# Altium footprint library Footprints.PcbLib: 29 footprints (part 2 of 2)
Each footprint in its own frame and in the unit in brackets; x right, y up, seen from the top. Pads: shape width x height; smd on the part's side, far side on the other; paste and mask are expansions set on the pad; w line width, h text height; cw(c..) or ccw(c..) is an arc to the next point about the centre after c.
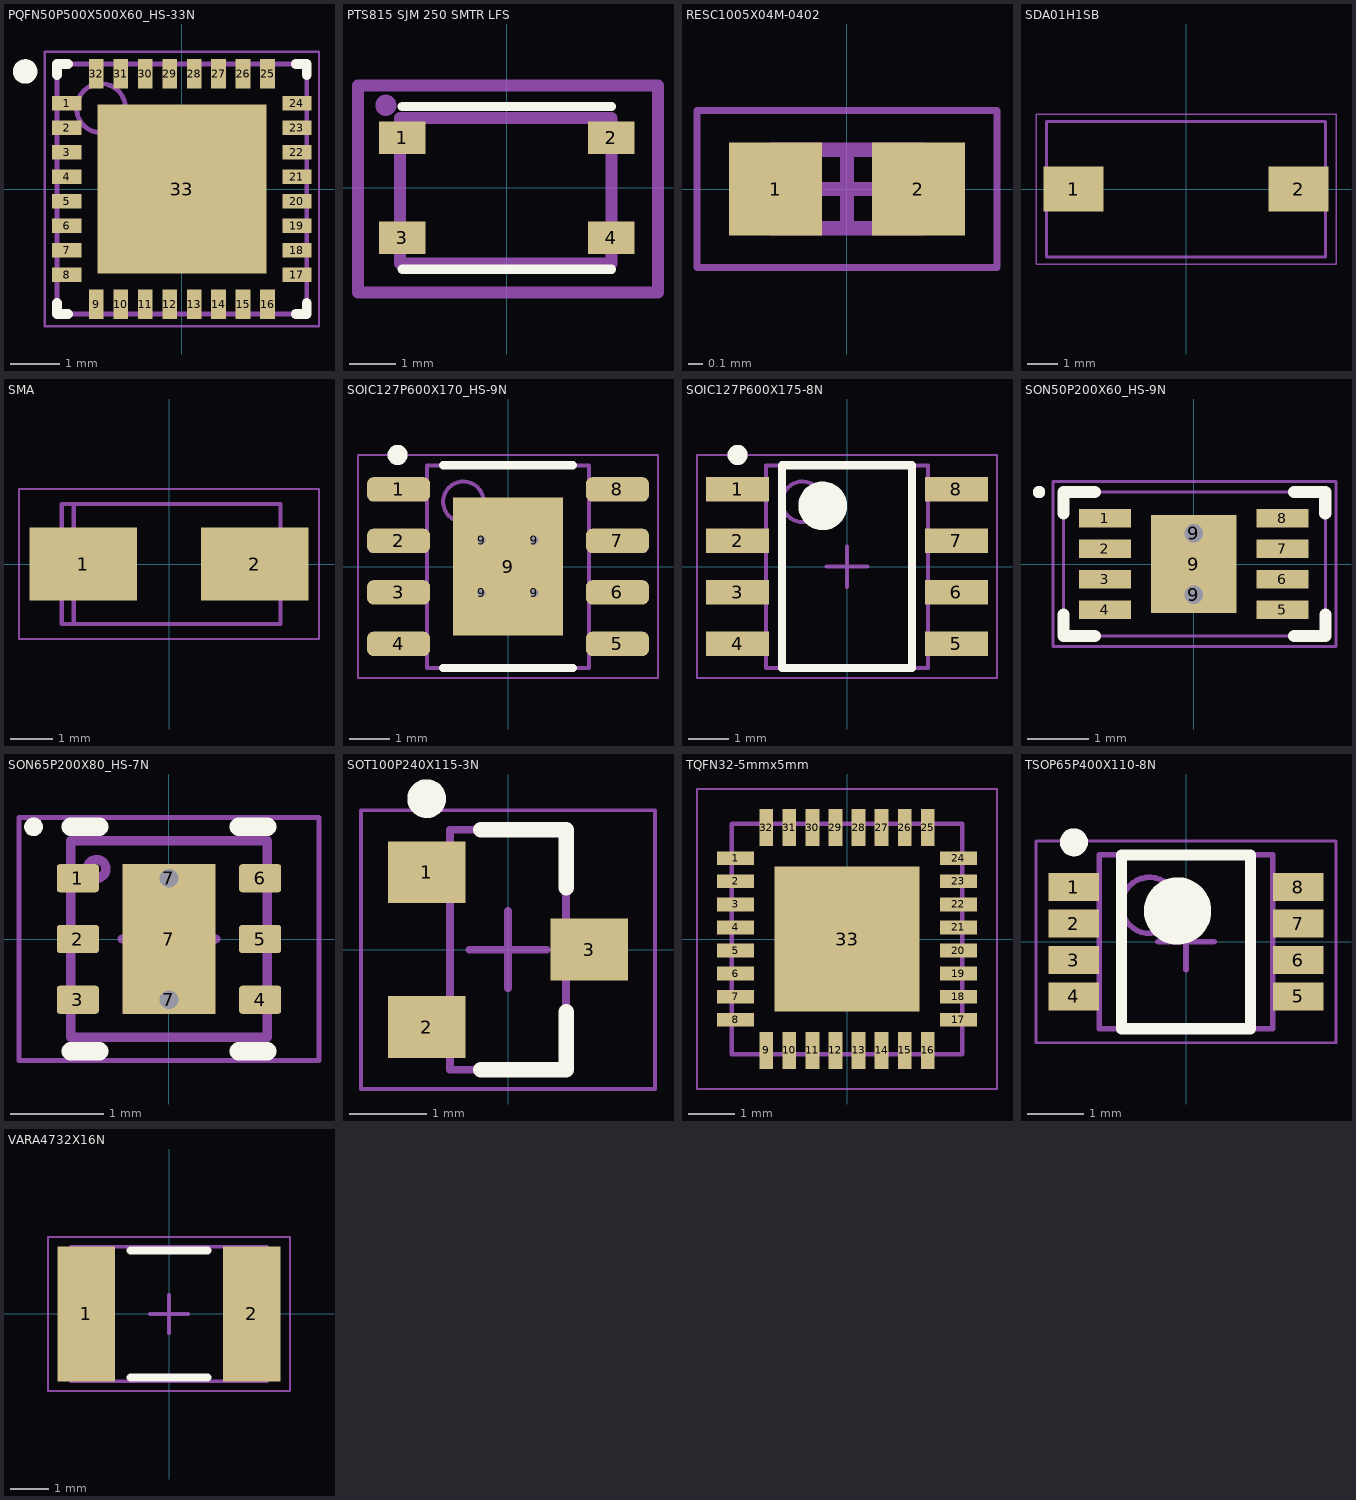
[diagram p1: the footprints below, top view; thin cyan lines are the x and y axes]

## PQFN50P500X500X60_HS-33N [mm] "PQFN, 32-Leads, Body 5.00x5.00mm, Pitch 0.50mm, Thermal Pad 3.50x3.50mm, IPC Medium Density"
height 0.6
pads (33):
  rect 0.6x0.3 smd mask+0.07: 1(-2.35,1.75) 2(-2.35,1.25) 3(-2.35,0.75) 4(-2.35,0.25) 5(-2.35,-0.25) 6(-2.35,-0.75) 7(-2.35,-1.25) 8(-2.35,-1.75) 17(2.35,-1.75) 18(2.35,-1.25) 19(2.35,-0.75) 20(2.35,-0.25) 21(2.35,0.25) 22(2.35,0.75) 23(2.35,1.25) 24(2.35,1.75)
  rect 0.3x0.6 smd mask+0.07: 9(-1.75,-2.35) 10(-1.25,-2.35) 11(-0.75,-2.35) 12(-0.25,-2.35) 13(0.25,-2.35) 14(0.75,-2.35) 15(1.25,-2.35) 16(1.75,-2.35) 25(1.75,2.35) 26(1.25,2.35) 27(0.75,2.35) 28(0.25,2.35) 29(-0.25,2.35) 30(-0.75,2.35) 31(-1.25,2.35) 32(-1.75,2.35)
  rect 3.45x3.45 smd mask+0.07: 33(0,0)
Top Overlay:
  circle w0.25: c-3.2,2.4 r0.125
  lines w0.2: -2.55,-2.325 -2.55,-2.55 -2.325,-2.55 ; -2.55,2.325 -2.55,2.55 -2.325,2.55 ; 2.325,-2.55 2.55,-2.55 2.55,-2.325 ; 2.325,2.55 2.55,2.55 2.55,2.325
Top Courtyard (Mech14):
  lines w0.05: -2.8,-2.8 -2.8,2.8 2.8,2.8 2.8,-2.8 -2.8,-2.8
  lines w0.1: -0.5,0 0.5,0 ; 0,-0.5 0,0.5
Top Assembly:
  circle w0.1: c-1.65,1.65 r0.5
  lines w0.1: -2.55,-2.55 -2.55,2.55 2.55,2.55 2.55,-2.55 -2.55,-2.55
3D body "STM32L432KCU6.step": height 0.61, standoff 0.01, extent -2.5,-2.5 2.5,2.5

## PTS815 SJM 250 SMTR LFS [mm]
pads (4):
  rect 1x0.7 smd paste-2539.97: 1(-2.25,1.075) 2(2.25,1.075) 3(-2.25,-1.075) 4(2.25,-1.075)
Top Overlay:
  lines w0.2: -2.25,-1.75 2.25,-1.75 ; -2.25,1.75 2.25,1.75
Top Courtyard (Mech14):
  lines w0.254: -3.2,-2.25 -3.2,2.2 3.25,2.2 3.25,-2.25 -3.2,-2.25
Top Assembly:
  circle w0.254: c-2.6,1.775 r0.1
  lines w0.254: -2.3,-1.625 -2.3,1.5 2.25,1.5 2.25,-1.625 -2.3,-1.625
  text ".Designator" at -1.5,-0.25 h0.75
3D body "PTS815SJM250SMTRLFS.stp": height 2.51, standoff 0.01, extent -2.25,-1.6 2.25,1.6

## RESC1005X04M-0402 [mm] "Chip Resistor, 2-Leads, Body 1.00x0.50mm, IPC Low Density"
height 0.4
pads (2):
  rect 0.65x0.65 smd: 1(-0.5,0) 2(0.5,0)
Top Courtyard (Mech14):
  lines w0.05: -1.05,-0.55 1.05,-0.55 1.05,0.55 -1.05,0.55 -1.05,-0.55
  lines w0.1: -0.275,0 0.275,0 ; 0,-0.275 0,0.275
Top Assembly:
  lines w0.1: -0.525,-0.275 0.525,-0.275 0.525,0.275 -0.525,0.275 -0.525,-0.275
  text ".Designator" at -0.775,-0.1 h0.4
3D body: height 0.4, standoff 0, extent 0.325,-0.275 0.525,0.275
3D body: height 0.4, standoff 0, extent -0.525,-0.275 -0.325,0.275
3D body: height 0.4, standoff 0, extent -0.325,-0.275 0.325,0.275

## SDA01H1SB [mm] "SDA01H1SB"
height 1.15
pads (2):
  rect 2x1.5 smd: 1(-3.75,0) 2(3.75,0)
Top Courtyard (Mech14):
  lines w0.05: -5,-2.5 -5,2.5 5,2.5 5,-2.5 -5,-2.5
Top Assembly:
  lines w0.1: -4.65,-2.275 -4.65,2.25 4.65,2.25 4.65,-2.275 -4.65,-2.275
  text ".Designator" at -3.25,-0.464 h1.52
3D body "SDA01H1SBD--3DModel-STEP-56544.STEP": height 5.25, standoff -0.18, extent -4.648,-2.261 4.648,2.261

## SMA [mm]
height 0.6
pads (2):
  rect 2.5x1.7 smd: 1(-2,0) 2(2,0)
Top Courtyard (Mech14):
  lines w0.05: -3.5,-1.75 3.5,-1.75 3.5,1.75 -3.5,1.75 -3.5,-1.75
Top Assembly:
  lines w0.1: -2.225,-1.375 -2.225,1.4 ; -2.5,-1.4 2.6,-1.4 2.6,1.4 -2.5,1.4 -2.5,-1.4
  text ".Designator" at -1.875,-0.175 h1
3D body "SMA.stp": height 2.11, standoff 0, extent -2.5,-1.4 2.58,1.4

## SOIC127P600X170_HS-9N [mm] "SOIC, 8-Leads, Body 4.90x3.90mm, Pitch 1.27mm, Thermal Pad 3.40x2.71mm, IPC Medium Density"
height 1.7
pads (13):
  rrect50% 1.55x0.6 smd mask+0.07: 1(-2.7,1.905) 2(-2.7,0.635) 3(-2.7,-0.635) 4(-2.7,-1.905) 5(2.7,-1.905) 6(2.7,-0.635) 7(2.7,0.635) 8(2.7,1.905)
  round 0.4 hole 0.2 mask+0.102: 9(-0.65,-0.65) 9(-0.65,0.65) 9(0.65,-0.65) 9(0.65,0.65)
  rect 2.71x3.4 smd mask+0.07: 9(0,0)
Top Overlay:
  circle w0.25: c-2.725,2.755 r0.125
  lines w0.2: -1.6,-2.5 1.6,-2.5 ; -1.6,2.5 1.6,2.5
Top Courtyard (Mech14):
  lines w0.05: -3.7,-2.75 -3.7,2.75 3.7,2.75 3.7,-2.75 -3.7,-2.75
  lines w0.1: -0.5,0 0.5,0 ; 0,-0.5 0,0.5
Top Assembly:
  circle w0.1: c-1.1,1.6 r0.5
  lines w0.1: -2,-2.5 -2,2.5 2,2.5 2,-2.5 -2,-2.5
  text ".Designator" at -2.125,-0.287 h1
3D body: height 1.7, standoff 0.15, extent -2,-2.5 2,2.5

## SOIC127P600X175-8N [mm] "SOIC, 8-Leads, Body 4.91x3.90mm, Pitch 1.27mm, IPC Medium Density"
height 1.75
pads (8):
  rect 1.55x0.6 smd: 1(-2.7,1.905) 2(-2.7,0.635) 3(-2.7,-0.635) 4(-2.7,-1.905) 5(2.7,-1.905) 6(2.7,-0.635) 7(2.7,0.635) 8(2.7,1.905)
Top Overlay:
  circle w0.25: c-2.7,2.755 r0.125
  circle w0.6: c-0.6,1.5 r0.3
  lines w0.2: -1.6,-2.5 -1.6,2.5 1.6,2.5 1.6,-2.5 -1.6,-2.5
Top Courtyard (Mech14):
  lines w0.05: -3.7,-2.75 -3.7,2.75 3.7,2.75 3.7,-2.75 -3.7,-2.75
  lines w0.1: -0.5,0 0.5,0 ; 0,-0.5 0,0.5
Top Assembly:
  circle w0.1: c-1.1,1.6 r0.5
  lines w0.1: -2,-2.5 -2,2.5 2,2.5 2,-2.5 -2,-2.5
  text ".Designator" at -2.225,-0.237 h1
3D body "SOIC127P599X175-8N.step": height 1.75, standoff 0, extent -2.997,-2.451 2.997,2.451

## SON50P200X60_HS-9N [mm] "SON, 8-Leads, Body 3.00x2.00mm, Pitch 0.50mm, Thermal Pad 1.50x0.68mm, IPC Medium Density"
height 0.6
pads (11):
  rect 0.85x0.3 smd: 1(-1.45,0.75) 2(-1.45,0.25) 3(-1.45,-0.25) 4(-1.45,-0.75) 5(1.45,-0.75) 6(1.45,-0.25) 7(1.45,0.25) 8(1.45,0.75)
  round 0.5 hole 0.3 mask+0.102: 9(0,-0.5) 9(0,0.5)
  rect 1.4x1.6 smd paste-0.1: 9(0,0)
Top Overlay:
  circle w0.1: c-2.525,1.175 r0.05
  lines w0.2: -2.125,-0.825 -2.125,-1.175 -1.615,-1.175 ; -2.125,0.825 -2.125,1.175 -1.615,1.175 ; 1.64,1.175 2.15,1.175 2.15,0.825 ; 1.645,-1.175 2.155,-1.175 2.155,-0.825
Top Courtyard (Mech14):
  lines w0.05: -2.3,-1.35 -2.3,1.35 2.325,1.35 2.325,-1.35 -2.3,-1.35
Top Assembly:
  circle w0.1: c-2.525,1.175 r0.05
  lines w0.05: -2.125,-1.175 2.155,-1.175 2.155,1.17 2.15,1.175 -2.125,1.175 -2.125,-1.175
  text ".Designator" at -0.775,-0.1 h0.4
3D body "UDFN8_2x3MC_MCH.step": height 0.48, standoff 0, extent -1.525,-1.025 1.525,1.025

## SON65P200X80_HS-7N [mm] "SON, 6-Leads, Body 2.00x2.00mm, Pitch 0.65mm, Thermal Pad 1.50x0.68mm, IPC Medium Density"
height 0.8
pads (9):
  rrect20% 0.45x0.3 smd mask+0.07: 1(-0.975,0.65) 2(-0.975,0) 3(-0.975,-0.65) 4(0.975,-0.65) 5(0.975,0) 6(0.975,0.65)
  round 0.3 hole 0.2 mask+0.102: 7(0,-0.65) 7(0,0.65)
  rect 1x1.6 smd paste-2539.97: 7(0,0)
Top Overlay:
  circle w0.1: c-1.45,1.2 r0.05
  lines w0.2: -1.05,-1.2 -0.745,-1.2 ; -1.05,1.2 -0.745,1.2 ; 0.745,-1.2 1.05,-1.2 ; 0.745,1.2 1.05,1.2
Top Paste:
  rectangle: -0.5,0.1 0.5,0.8
  region: 0.5,-0.1 -0.5,-0.1 -0.5,-0.8 0.5,-0.8
Top Courtyard (Mech14):
  lines w0.05: -1.605,-1.3 1.605,-1.3 1.605,1.3 -1.605,1.3 -1.605,-1.3
  lines w0.1: -0.5,0 0.5,0 ; 0,-0.5 0,0.5
Top Assembly:
  circle w0.1: c-0.775,0.75 r0.1
  lines w0.1: -1.05,-1.05 1.05,-1.05 1.05,1.05 -1.05,1.05 -1.05,-1.05
  text ".Designator" at -1.1,-0.131 h0.5
3D body "TLV75533PDRVR.step": height 0.76, standoff 0.01, extent -1,-1 1,1

## SOT100P240X115-3N [mm] "SOT23, 3-Leads, Body 2.90x2.40mm, Pitch 1.00mm, IPC Medium Density"
height 1.15
pads (3):
  rect 1x0.8 smd: 1(-1.05,1) 2(-1.05,-1) 3(1.05,0)
Top Overlay:
  circle w0.25: c-1.05,1.95 r0.125
  lines w0.2: -0.35,-1.55 0.75,-1.55 0.75,-0.8 ; -0.35,1.55 0.75,1.55 0.75,0.8
Top Courtyard (Mech14):
  lines w0.05: -1.9,-1.8 1.9,-1.8 1.9,1.8 -1.9,1.8 -1.9,-1.8
  lines w0.1: -0.5,0 0.5,0 ; 0,-0.5 0,0.5
Top Assembly:
  lines w0.1: -0.75,-1.55 0.75,-1.55 0.75,1.55 -0.75,1.55 -0.75,-1.55
  text ".Designator" at 0.237,-2.425 h1
3D body: height 1.15, standoff 0.1, extent -0.75,-1.55 0.75,1.55

## TQFN32-5mmx5mm [mm]
pads (33):
  rect 0.8x0.3 smd mask+0.05: 1(-2.415,1.75) 2(-2.415,1.25) 3(-2.415,0.75) 4(-2.415,0.25) 5(-2.415,-0.25) 6(-2.415,-0.75) 7(-2.415,-1.25) 8(-2.415,-1.75) 17(2.415,-1.75) 18(2.415,-1.25) 19(2.415,-0.75) 20(2.415,-0.25) 21(2.415,0.25) 22(2.415,0.75) 23(2.415,1.25) 24(2.415,1.75)
  rect 0.3x0.8 smd mask+0.05: 9(-1.75,-2.415) 10(-1.25,-2.415) 11(-0.75,-2.415) 12(-0.25,-2.415) 13(0.25,-2.415) 14(0.75,-2.415) 15(1.25,-2.415) 16(1.75,-2.415) 25(1.75,2.415) 26(1.25,2.415) 27(0.75,2.415) 28(0.25,2.415) 29(-0.25,2.415) 30(-0.75,2.415) 31(-1.25,2.415) 32(-1.75,2.415)
  rect 3.15x3.15 smd mask+0.05: 33(0,0)
Top Courtyard (Mech14):
  lines w0.05: -3.25,-3.25 -3.25,3.25 3.25,3.25 3.25,-3.25 -3.25,-3.25
Top Assembly:
  lines w0.1: -2.5,-2.5 2.5,-2.5 2.5,2.5 -2.5,2.5 -2.5,-2.5
  text ".Designator" at -1.25,0 h0.7
3D body "TQFN32_5X5_TRI.step": height 0.76, standoff 0, extent -2.502,-2.504 2.502,2.5

## TSOP65P400X110-8N [mm] "TSOP, 8-Leads, Body 3.00x3.00mm, Pitch 0.65mm, IPC Medium Density"
height 1.1
pads (8):
  rect 0.9x0.5 smd: 1(-2,0.975) 2(-2,0.325) 3(-2,-0.325) 4(-2,-0.975) 5(2,-0.975) 6(2,-0.325) 7(2,0.325) 8(2,0.975)
Top Overlay:
  circle w0.6: c-0.15,0.55 r0.3
  circle w0.25: c-2,1.775 r0.125
  lines w0.2: -1.15,-1.55 1.15,-1.55 1.15,1.55 -1.15,1.55 -1.15,-1.55
Top Courtyard (Mech14):
  lines w0.05: -2.675,-1.8 2.675,-1.8 2.675,1.8 -2.675,1.8 -2.675,-1.8
  lines w0.1: -0.5,0 0.5,0 ; 0,-0.5 0,0.5
Top Assembly:
  circle w0.1: c-0.65,0.65 r0.5
  lines w0.1: -1.55,-1.55 1.55,-1.55 1.55,1.55 -1.55,1.55 -1.55,-1.55
  text ".Designator" at -1.25,0 h0.7
3D body "74LVC3G07DP-Q100H_NEX.step": height 1.09, standoff 0, extent -2.045,-1.549 2.045,1.549

## VARA4732X16N [mm] "VARISTOR, 2-Leads, Body 4.70x3.20mm, IPC Medium Density"
height 1.55
pads (2):
  rect 1.5x3.5 smd: 1(-2.15,0) 2(2.15,0)
Top Overlay:
  lines w0.2: -1,-1.65 1,-1.65 ; -1,1.65 1,1.65
Top Courtyard (Mech14):
  lines w0.05: -3.15,-2 3.15,-2 3.15,2 -3.15,2 -3.15,-2
  lines w0.1: -0.5,0 0.5,0 ; 0,-0.5 0,0.5
Top Assembly:
  lines w0.1: -2.55,-1.75 2.55,-1.75 2.55,1.75 -2.55,1.75 -2.55,-1.75
  text ".Designator" at -1.25,0 h0.7
3D body: height 1.55, standoff 0, extent 2.05,-1.75 2.55,1.75
3D body: height 1.55, standoff 0, extent -2.55,-1.75 -2.05,1.75
3D body: height 1.55, standoff 0, extent -2.05,-1.75 2.05,1.75